# EAGLE library part 74*4067 (library 74xx-us)
16-Channel Analog Multiplexer/Demultiplexer
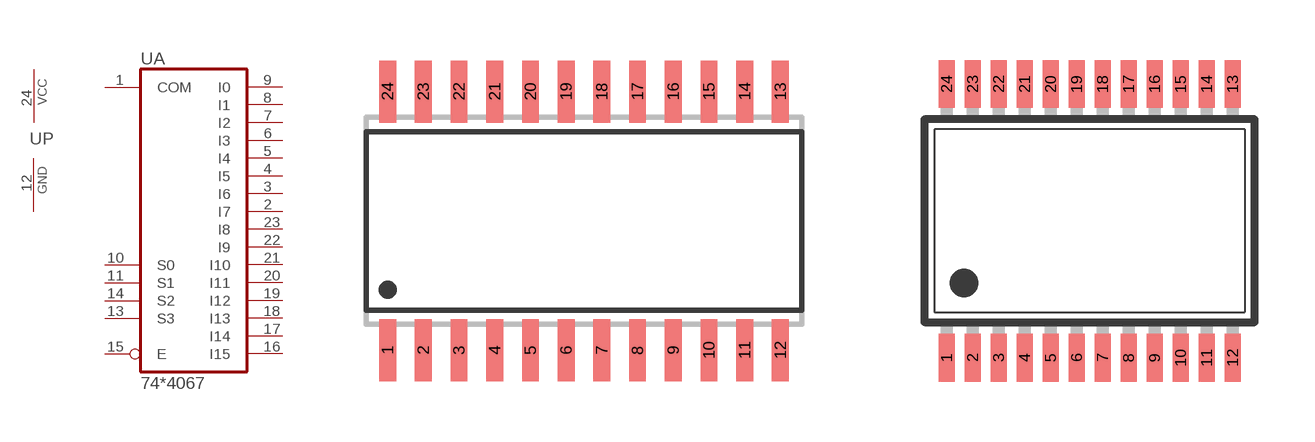
[diagram p325: symbol with the pads of SO24W; footprints SO24W, SSOP24]

Designator prefix U; gates A=744067 P=PWRN

## 74HC4067M, 74HCT4067M  [SO24W]
1  A:COM
2  A:I7
3  A:I6
4  A:I5
5  A:I4
6  A:I3
7  A:I2
8  A:I1
9  A:I0
10  A:S0  in
11  A:S1  in
12  P:GND  pwr
13  A:S3  in
14  A:S2  in
15  A:E  in
16  A:I15
17  A:I14
18  A:I13
19  A:I12
20  A:I11
21  A:I10
22  A:I9
23  A:I8
24  P:VCC  pwr

## 74HC4067SM96, 74HCT4067SM96  [SSOP24]
Pads as for SO24W

## Footprint SO24W (pad centres in mm)
SMALL OUTLINE INTEGRATED CIRCUIT wide body 7.5 mm/JEDEC MO-119AA
smd 0.6 x 2.2: 1 -6.985,-4.6; 2 -5.715,-4.6; 3 -4.445,-4.6; 4 -3.175,-4.6; 5 -1.905,-4.6; 6 -0.635,-4.6; 7 0.635,-4.6; 8 1.905,-4.6; 9 3.175,-4.6; 10 4.445,-4.6; 11 5.715,-4.6; 12 6.985,-4.6; 13 6.985,4.6; 14 5.715,4.6; 15 4.445,4.6; 16 3.175,4.6; 17 1.905,4.6; 18 0.635,4.6; 19 -0.635,4.6; 20 -1.905,4.6; 21 -3.175,4.6; 22 -4.445,4.6; 23 -5.715,4.6; 24 -6.985,4.6

## Footprint SSOP24 (pad centres in mm)
Small Shrink Outline Package SOT340-1 / JEDEC MO-150AG
smd 0.4 x 1.2: 1 -3.575,-3.42; 2 -2.925,-3.42; 3 -2.275,-3.42; 4 -1.625,-3.42; 5 -0.975,-3.42; 6 -0.325,-3.42; 7 0.325,-3.42; 8 0.975,-3.42; 9 1.625,-3.42; 10 2.275,-3.42; 11 2.925,-3.42; 12 3.575,-3.42; 13 3.575,3.42; 14 2.925,3.42; 15 2.275,3.42; 16 1.625,3.42; 17 0.975,3.42; 18 0.325,3.42; 19 -0.325,3.42; 20 -0.975,3.42; 21 -1.625,3.42; 22 -2.275,3.42; 23 -2.925,3.42; 24 -3.575,3.42